# EAGLE library part RPIGPIOPINHD-2X13-SMD-FLIPPED (library pimoroni)
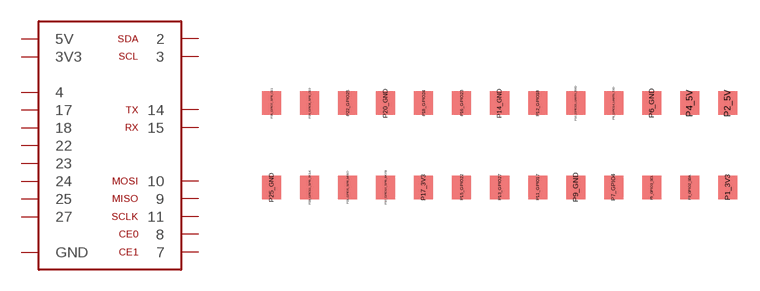
[diagram p0: symbol with the pads of FCI_89898_313LF_26P_CONNECTOR_SMT_FLIPPED; footprint FCI_89898_313LF_26P_CONNECTOR_SMT_FLIPPED]

Designator prefix -

## RPIGPIOPINHD-2X13-SMD-FLIPPED  [FCI_89898_313LF_26P_CONNECTOR_SMT_FLIPPED]
P1_3V3  3V3  pwr
P2_5V  5V  pwr
P3_GPIO2_SDA  2
P4_5V  5V  pwr
P5_GPIO3_SCL  3
P6_GND  GND  pas
P7_GPIO4  4
P8_GPIO14_UART0_TXD  14
P9_GND  GND  pas
P10_GPIO15_UART0_RXD  15
P11_GPIO17  17
P12_GPIO18  18
P13_GPIO27  27
P14_GND  GND  pas
P15_GPIO22  22
P16_GPIO23  23
P17_3V3  3V3  pwr
P18_GPIO24  24
P19_GPIO10_SPI0_MOSI  10
P20_GND  GND  pas
P21_GPIO9_SPI0_MISO  9
P22_GPIO25  25
P23_GPIO11_SPI0_SCLK  11
P24_GPIO8_SPI0_CE0  8
P25_GND  GND  pas
P26_GPIO7_SPI0_CE1  7

## Footprint FCI_89898_313LF_26P_CONNECTOR_SMT_FLIPPED (pad centres in mm)
smd 1.27 x 1.57: P1_3V3 15.24,-2.81; P2_5V 15.24,2.81; P3_GPIO2_SDA 12.7,-2.81; P4_5V 12.7,2.81; P5_GPIO3_SCL 10.16,-2.81; P6_GND 10.16,2.81; P7_GPIO4 7.62,-2.81; P8_GPIO14_UART0_TXD 7.62,2.81; P9_GND 5.08,-2.81; P10_GPIO15_UART0_RXD 5.08,2.81; P11_GPIO17 2.54,-2.81; P12_GPIO18 2.54,2.81; P13_GPIO27 0,-2.81; P14_GND 0,2.81; P15_GPIO22 -2.54,-2.81; P16_GPIO23 -2.54,2.81; P17_3V3 -5.08,-2.81; P18_GPIO24 -5.08,2.81; P19_GPIO10_SPI0_MOSI -7.62,-2.81; P20_GND -7.62,2.81; P21_GPIO9_SPI0_MISO -10.16,-2.81; P22_GPIO25 -10.16,2.81; P23_GPIO11_SPI0_SCLK -12.7,-2.81; P24_GPIO8_SPI0_CE0 -12.7,2.81; P25_GND -15.24,-2.81; P26_GPIO7_SPI0_CE1 -15.24,2.81